# EAGLE library part 24AA01T-I/MNY (library circuit_tree)
IC
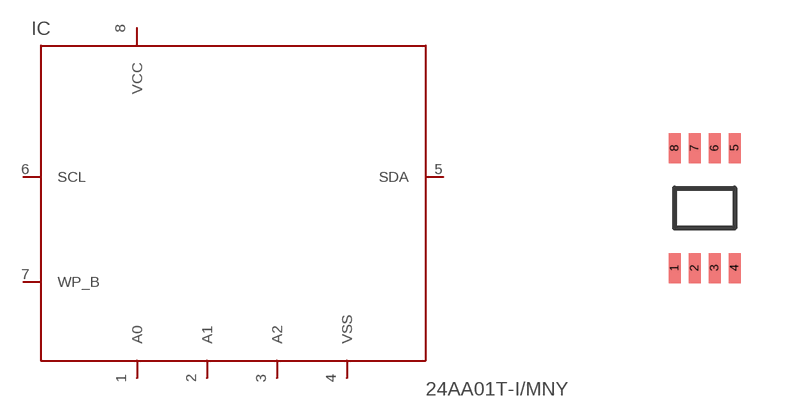
[diagram p0: symbol with the pads of TDFN-8/6MM; footprint TDFN-8/6MM]

Designator prefix IC

## 24AA01T-I/MNY  [TDFN-8/6MM]
1  A0  pas
2  A1  pas
3  A2  pas
4  VSS  pas
5  SDA  pas
6  SCL  pas
7  WP_B  pas
8  VCC  pas

## Footprint TDFN-8/6MM (pad centres in mm)
smd 0.3 x 0.75: 1 0,0; 2 0.5,0; 3 1,0; 4 1.5,0; 5 1.5,3; 6 1,3; 7 0.5,3; 8 0,3